# Altium footprint library IND_0805.PcbLib: 1 footprints
Each footprint in its own frame and in the unit in brackets; x right, y up, seen from the top. Pads: shape width x height; smd on the part's side, far side on the other; paste and mask are expansions set on the pad; w line width, h text height; cw(c..) or ccw(c..) is an arc to the next point about the centre after c.
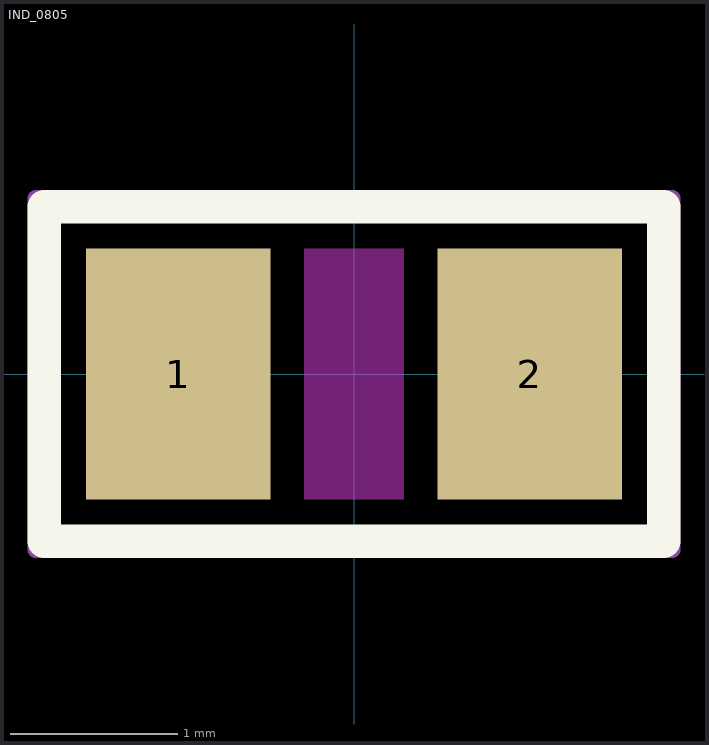
[diagram p0: the footprint, top view; thin cyan lines are the x and y axes]

## IND_0805 [mm]
pads (2):
  rect 1.1x1.5 smd: 1(-1.05,0) 2(1.05,0)
Top Layer keep-out:
  rectangle: -0.3,-0.75 0.3,0.75
Top Overlay:
  lines w0.2: -1.85,-1 -1.85,1 1.85,1 1.85,-1 -1.85,-1
Top Courtyard:
  lines w0.1: -1.9,-1.05 -1.9,1.05 1.9,1.05 1.9,-1.05 -1.9,-1.05
3D body "LQM21PH2R2NGCD.STEP": height 1, standoff 0, extent -1,-0.625 1,0.625